# EAGLE library part ADS1298 (library ti)
Quad/Octal, Simultaneous Sampling, 24-Bit Analog-to-Digital Converters ADS1294 / ADS1298 Source: http://www.ti.com/lit/ds/symlink/ads1298.pdf
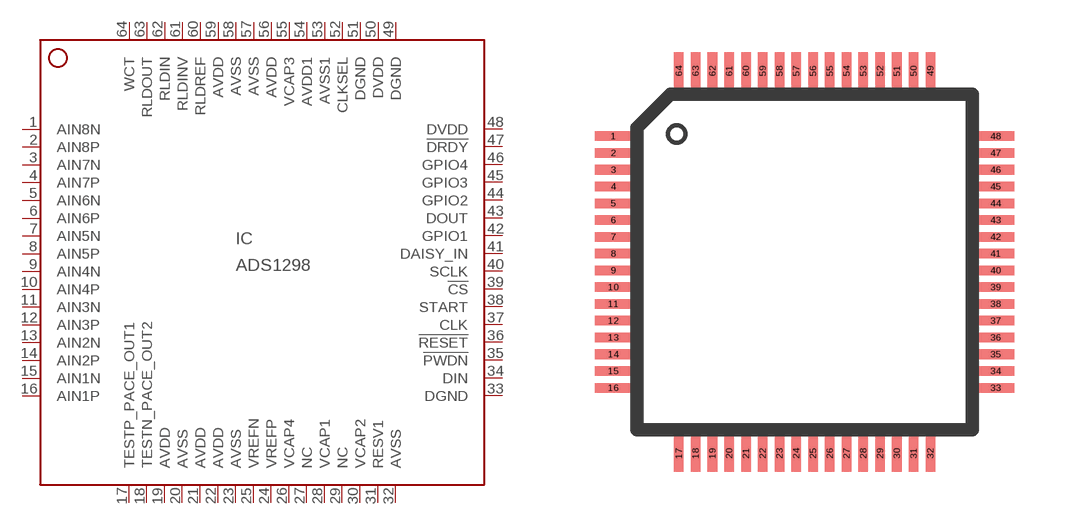
[diagram p1: symbol with the pads of LQFP64; footprint LQFP64]

Designator prefix IC

## ADS1298IPAG  [LQFP64]
1  AIN8N  in
2  AIN8P  in
3  AIN7N  in
4  AIN7P  in
5  AIN6N  in
6  AIN6P  in
7  AIN5N  in
8  AIN5P  in
9  AIN4N  in
10  AIN4P  in
11  AIN3N  in
12  AIN3P  in
13  AIN2N  in
14  AIN2P  in
15  AIN1N  in
16  AIN1P  in
17  TESTP_PACE_OUT1
18  TESTN_PACE_OUT2
19  AVDD  pwr
20  AVSS  pwr
21  AVDD  pwr
22  AVDD  pwr
23  AVSS  pwr
24  VREFP  in
25  VREFN  in
26  VCAP4  pas
27  NC  nc
28  VCAP1  pas
29  NC  nc
30  VCAP2  pas
31  RESV1  in
32  AVSS  pwr
33  DGND  pwr
34  DIN  in
35  !PWDN  in
36  !RESET  in
37  CLK  in
38  START  in
39  !CS  in
40  SCLK
41  DAISY_IN  in
42  GPIO1
43  DOUT
44  GPIO2
45  GPIO3
46  GPIO4
47  !DRDY  in
48  DVDD  pwr
49  DGND  pwr
50  DVDD  pwr
51  DGND  pwr
52  CLKSEL  in
53  AVSS1  pwr
54  AVDD1  pwr
55  VCAP3  pas
56  AVDD  pwr
57  AVSS  pwr
58  AVSS  pwr
59  AVDD  pwr
60  RLDREF  in
61  RLDINV
62  RLDIN  in
63  RLDOUT  out
64  WCT  out

## Footprint LQFP64 (pad centres in mm)
Plastic Low Profile Quad Flat Package
smd 1.1 x 0.285: 1 -5.7,3.75; 2 -5.7,3.25; 3 -5.7,2.75; 4 -5.7,2.25; 5 -5.7,1.75; 6 -5.7,1.25; 7 -5.7,0.75; 8 -5.7,0.25; 9 -5.7,-0.25; 10 -5.7,-0.75; 11 -5.7,-1.25; 12 -5.7,-1.75; 13 -5.7,-2.25; 14 -5.7,-2.75; 15 -5.7,-3.25; 16 -5.7,-3.75; 33 5.7,-3.75; 34 5.7,-3.25; 35 5.7,-2.75; 36 5.7,-2.25; 37 5.7,-1.75; 38 5.7,-1.25; 39 5.7,-0.75; 40 5.7,-0.25; 41 5.7,0.25; 42 5.7,0.75; 43 5.7,1.25; 44 5.7,1.75; 45 5.7,2.25; 46 5.7,2.75; 47 5.7,3.25; 48 5.7,3.75
smd 0.285 x 1.1: 17 -3.75,-5.7; 18 -3.25,-5.7; 19 -2.75,-5.7; 20 -2.25,-5.7; 21 -1.75,-5.7; 22 -1.25,-5.7; 23 -0.75,-5.7; 24 -0.25,-5.7; 25 0.25,-5.7; 26 0.75,-5.7; 27 1.25,-5.7; 28 1.75,-5.7; 29 2.25,-5.7; 30 2.75,-5.7; 31 3.25,-5.7; 32 3.75,-5.7; 49 3.75,5.7; 50 3.25,5.7; 51 2.75,5.7; 52 2.25,5.7; 53 1.75,5.7; 54 1.25,5.7; 55 0.75,5.7; 56 0.25,5.7; 57 -0.25,5.7; 58 -0.75,5.7; 59 -1.25,5.7; 60 -1.75,5.7; 61 -2.25,5.7; 62 -2.75,5.7; 63 -3.25,5.7; 64 -3.75,5.7